# Altium schematic symbol library R_80R6_311-80.6LRCT-ND.SchLib: 1 symbol
Pins are listed as number, name and electrical type; pins without a type are passive.

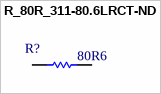
[diagram p0: symbol R_80R_311-80.6LRCT-ND]

## R_80R_311-80.6LRCT-ND
designator R?  (value not drawn)
footprint RESC1005X03N (Chip Resistor, 2-Leads, Body 1.00x0.50mm, IPC Medium Density)
pins: 1, 2
text: 80R6